# EAGLE library part MC100EP131FAG (library On Semiconductor)
3.3V / 5V ECL Quad D Flip-Flop
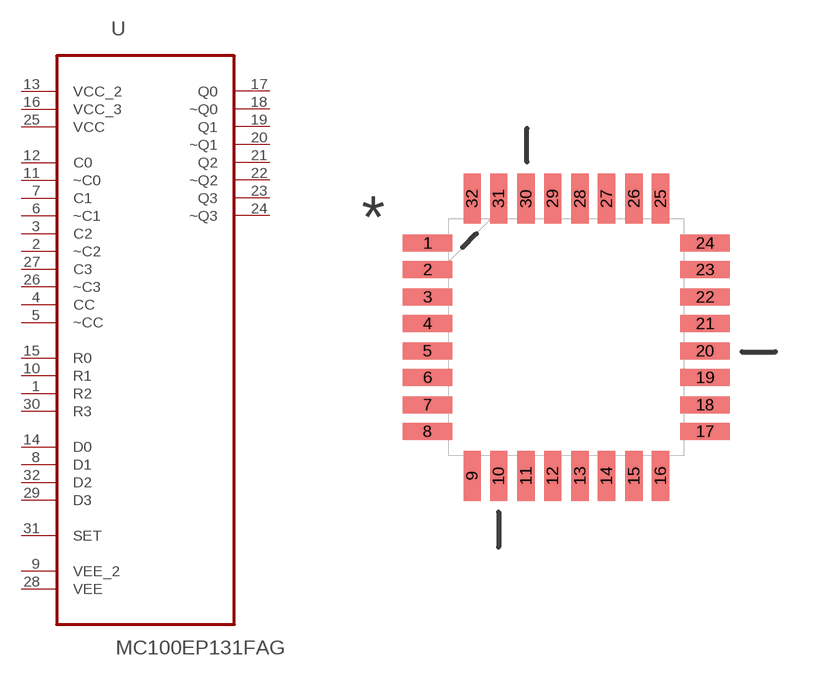
[diagram p100: symbol with the pads of QFP80P900X900X160-32N; footprint QFP80P900X900X160-32N]

Designator prefix U

## MC100EP131FAG (MPN: MC100EP131FAG; OC_FARNELL: -; OC_NEWARK: 26K3843; PACKAGE: LQFP-32; SUPPLIER: ON SEMICONDUCTOR)  [QFP80P900X900X160-32N]
1  R2  in
2  ~C2  in
3  C2  in
4  CC  in
5  ~CC  in
6  ~C1  in
7  C1  in
8  D1  in
9  VEE_2  in
10  R1  in
11  ~C0  in
12  C0  in
13  VCC_2  pwr
14  D0  in
15  R0  in
16  VCC_3  out
17  Q0  out
18  ~Q0  out
19  Q1  out
20  ~Q1  out
21  Q2  out
22  ~Q2  out
23  Q3  out
24  ~Q3  out
25  VCC  in
26  ~C3  in
27  C3  in
28  VEE  pas
29  D3  in
30  R3  in
31  SET  in
32  D2  in

## Footprint QFP80P900X900X160-32N (pad centres in mm)
smd 1.473 x 0.508: 1 -4.115,2.794; 2 -4.115,2.007; 3 -4.115,1.194; 4 -4.115,0.406; 5 -4.115,-0.406; 6 -4.115,-1.194; 7 -4.115,-2.007; 8 -4.115,-2.794; 17 4.115,-2.794; 18 4.115,-2.007; 19 4.115,-1.194; 20 4.115,-0.406; 21 4.115,0.406; 22 4.115,1.194; 23 4.115,2.007; 24 4.115,2.794
smd 0.508 x 1.473: 9 -2.794,-4.115; 10 -2.007,-4.115; 11 -1.194,-4.115; 12 -0.406,-4.115; 13 0.406,-4.115; 14 1.194,-4.115; 15 2.007,-4.115; 16 2.794,-4.115; 25 2.794,4.115; 26 2.007,4.115; 27 1.194,4.115; 28 0.406,4.115; 29 -0.406,4.115; 30 -1.194,4.115; 31 -2.007,4.115; 32 -2.794,4.115